# Altium integrated library transistor-npn.IntLib: 176 symbols
Pins are listed as number, name and electrical type; pins without a type are passive.

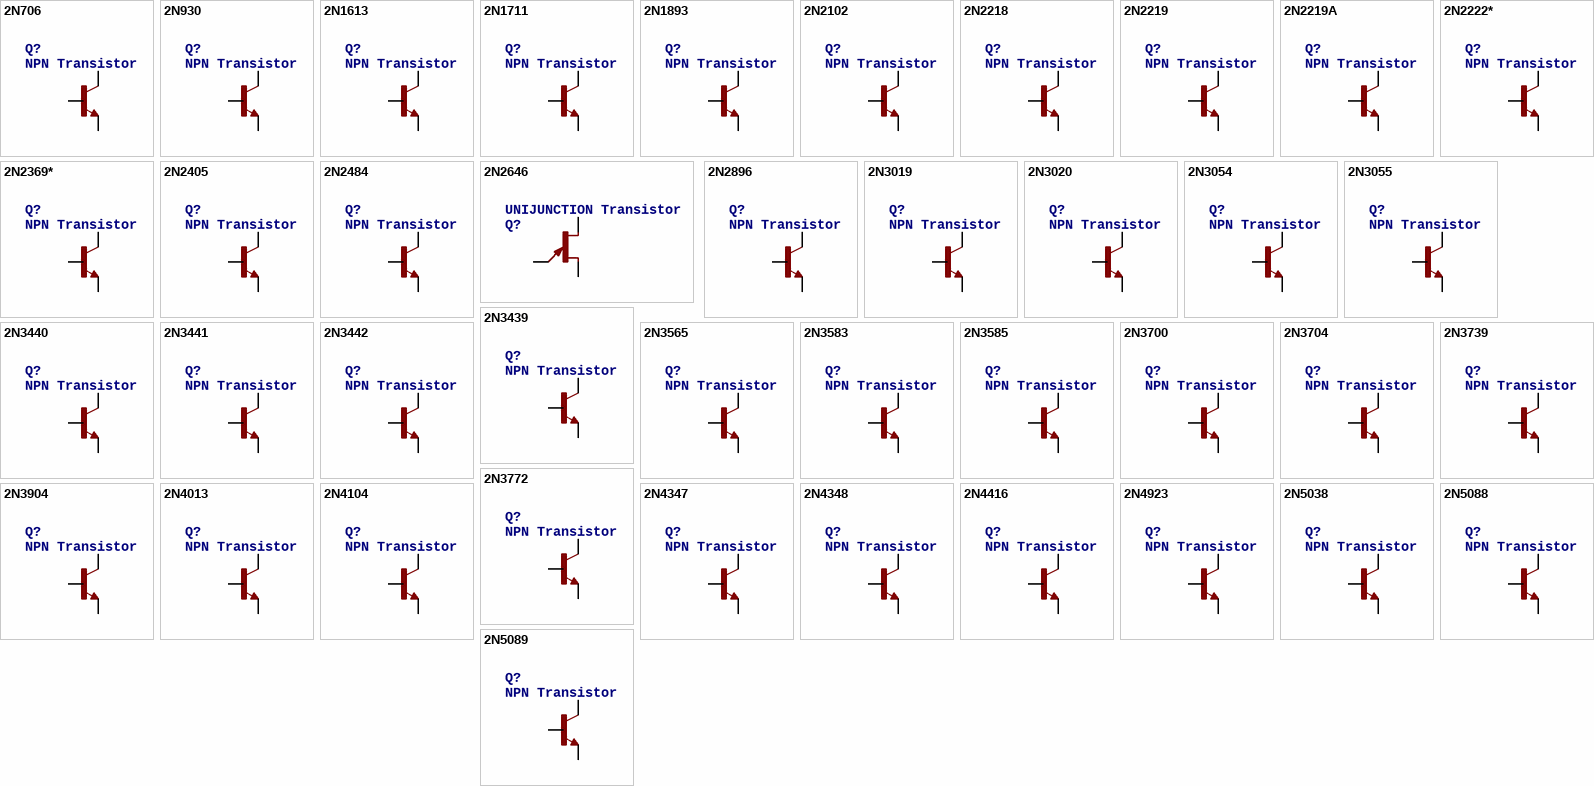
[diagram p0: symbols 2N706 to 2N5089]

## 2N706
designator Q?, comment NPN Transistor
footprint TO18
pins: 1 E, 2 B, 3 C

## 2N930
designator Q?, comment NPN Transistor
footprint TO18
pins: 1 E, 2 B, 3 C

## 2N1613
designator Q?, comment NPN Transistor
footprint TO5
pins: 1 E, 2 B, 3 C

## 2N1711
designator Q?, comment NPN Transistor
footprint TO39
pins: 1 E, 2 B, 3 C

## 2N1893
designator Q?, comment NPN Transistor
footprint TO5
pins: 1 E, 2 B, 3 C

## 2N2102
designator Q?, comment NPN Transistor
footprint TO5
pins: 1 E, 2 B, 3 C

## 2N2218
designator Q?, comment NPN Transistor
footprint TO18
pins: 1 E, 2 B, 3 C

## 2N2219
designator Q?, comment NPN Transistor
footprint TO5
pins: 1 E, 2 B, 3 C

## 2N2219A
designator Q?, comment NPN Transistor
footprint TO39
pins: 1 E, 2 B, 3 C

## 2N2222*
designator Q?, comment NPN Transistor
footprint TO18
pins: 1 E, 2 B, 3 C

## 2N2369*
designator Q?, comment NPN Transistor
footprint TO18
pins: 1 E, 2 B, 3 C

## 2N2405
designator Q?, comment NPN Transistor
footprint TO5
pins: 1 E, 2 B, 3 C

## 2N2484
designator Q?, comment NPN Transistor
footprint TO18
pins: 1 E, 2 B, 3 C

## 2N2646
designator Q?, comment UNIJUNCTION Transistor
footprint TO72
pins: 1 E, 2 B1, 4 B2

## 2N2896
designator Q?, comment NPN Transistor
footprint TO18
pins: 1 E, 2 B, 3 C

## 2N3019
designator Q?, comment NPN Transistor
footprint TO39
pins: 1 E, 2 B, 3 C

## 2N3020
designator Q?, comment NPN Transistor
footprint TO39
pins: 1 E, 2 B, 3 C

## 2N3054
designator Q?, comment NPN Transistor
footprint TO66
pins: 1 E, 2 B, 3 TO66 C

## 2N3055
designator Q?, comment NPN Transistor
footprint TO3
pins: B, C C/ C, E

## 2N3439
designator Q?, comment NPN Transistor
footprint TO5
pins: 1 E, 2 B, 3 C

## 2N3440
designator Q?, comment NPN Transistor
footprint TO5
pins: 1 E, 2 B, 3 C

## 2N3441
designator Q?, comment NPN Transistor
footprint TO66
pins: 1 E, 2 B, 3 TO66 C

## 2N3442
designator Q?, comment NPN Transistor
footprint TO3
pins: B, C C/ C, E

## 2N3565
designator Q?, comment NPN Transistor
footprint TO92
pins: 1 C, 2 B, 3 E

## 2N3583
designator Q?, comment NPN Transistor
footprint TO66
pins: 1 E, 2 B, 3 TO66 C

## 2N3585
designator Q?, comment NPN Transistor
footprint TO66
pins: 1 E, 2 B, 3 TO66 C

## 2N3700
designator Q?, comment NPN Transistor
footprint TO18
pins: 1 E, 2 B, 3 C

## 2N3704
designator Q?, comment NPN Transistor
footprint TO92
pins: 1 B, 2 C, 3 E

## 2N3739
designator Q?, comment NPN Transistor
footprint TO66
pins: 1 E, 2 B, 3 TO66 C

## 2N3772
designator Q?, comment NPN Transistor
footprint TO3
pins: B, C C/ C, E

## 2N3904
designator Q?, comment NPN Transistor
footprint TO92
pins: 1 C, 2 B, 3 E

## 2N4013
designator Q?, comment NPN Transistor
footprint TO18
pins: 1 E, 2 B, 3 C

## 2N4104
designator Q?, comment NPN Transistor
footprint TO18
pins: 1 E, 2 B, 3 C

## 2N4347
designator Q?, comment NPN Transistor
footprint TO3
pins: B, C C/ C, E

## 2N4348
designator Q?, comment NPN Transistor
footprint TO3
pins: B, C C/ C, E

## 2N4416
designator Q?, comment NPN Transistor
footprint TO92
pins: 1 C, 2 B, 3 E

## 2N4923
designator Q?, comment NPN Transistor
footprint TO126
pins: 1 E, 2 C, 3 B

## 2N5038
designator Q?, comment NPN Transistor
footprint TO3
pins: B, C C/ C, E

## 2N5088
designator Q?, comment NPN Transistor
footprint TO92
pins: 1 C, 2 B, 3 E

## 2N5089
designator Q?, comment NPN Transistor
footprint TO92
pins: 1 C, 2 B, 3 E

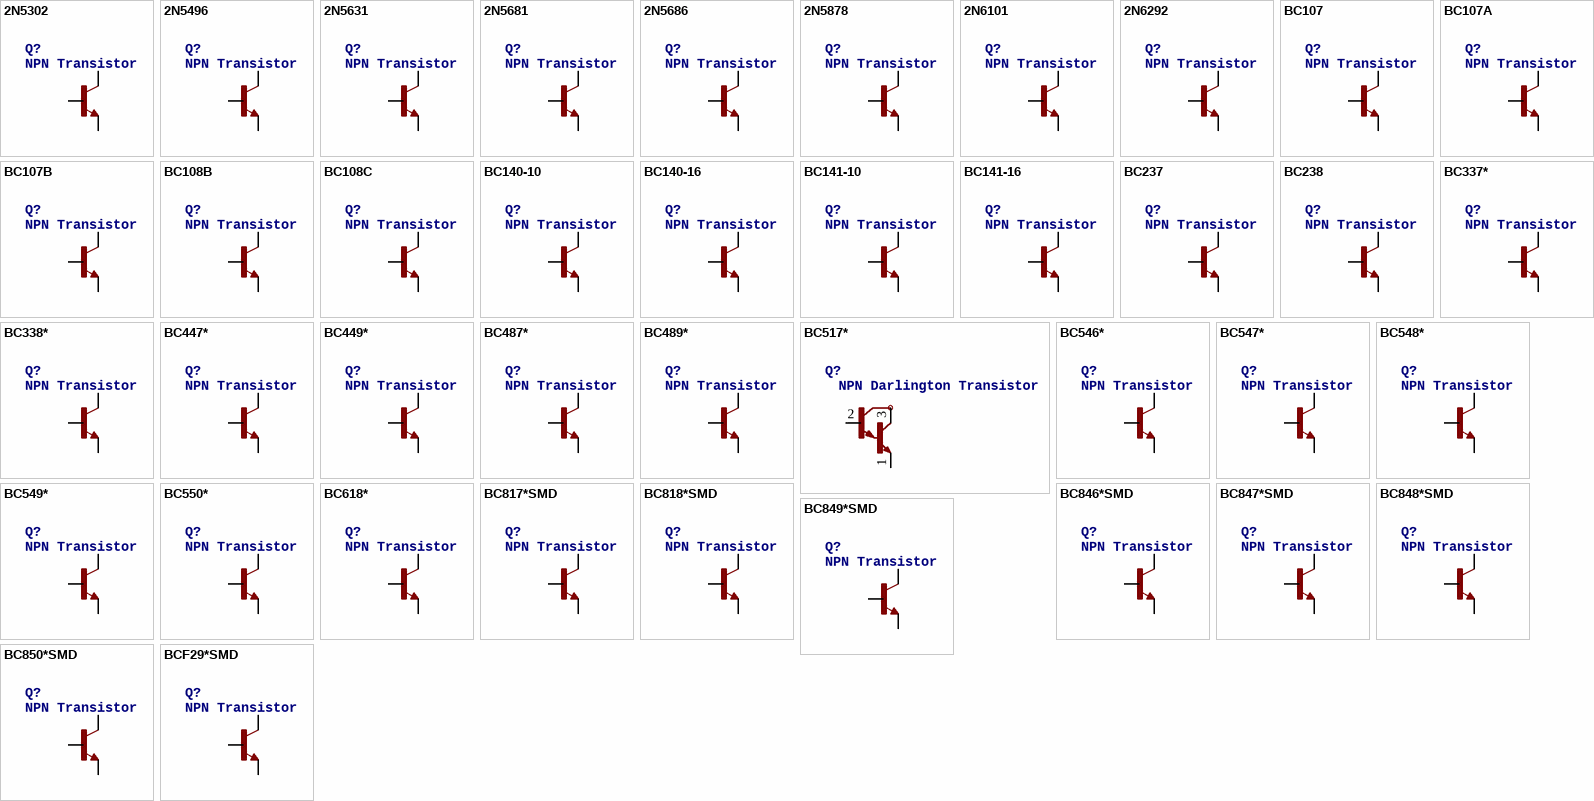
[diagram p1: symbols 2N5302 to BCF29*SMD]

## 2N5302
designator Q?, comment NPN Transistor
footprint TO3
pins: B, C C/ C, E

## 2N5496
designator Q?, comment NPN Transistor
footprint TO220
pins: 1 B, 2 C, 3 E

## 2N5631
designator Q?, comment NPN Transistor
footprint TO3
pins: B, C C/ C, E

## 2N5681
designator Q?, comment NPN Transistor
footprint TO5
pins: 1 E, 2 B, 3 C

## 2N5686
designator Q?, comment NPN Transistor
footprint TO3
pins: B, C C/ C, E

## 2N5878
designator Q?, comment NPN Transistor
footprint TO3
pins: B, C C/ C, E

## 2N6101
designator Q?, comment NPN Transistor
footprint TO220
pins: 1 B, 2 C, 3 E

## 2N6292
designator Q?, comment NPN Transistor
footprint TO220
pins: 1 B, 2 C, 3 E

## BC107
designator Q?, comment NPN Transistor
footprint TO18
pins: 1 E, 2 B, 3 C

## BC107A
designator Q?, comment NPN Transistor
footprint TO18
pins: 1 E, 2 B, 3 C

## BC107B
designator Q?, comment NPN Transistor
footprint TO18
pins: 1 E, 2 B, 3 C

## BC108B
designator Q?, comment NPN Transistor
footprint TO18
pins: 1 E, 2 B, 3 C

## BC108C
designator Q?, comment NPN Transistor
footprint TO18
pins: 1 E, 2 B, 3 C

## BC140-10
designator Q?, comment NPN Transistor
footprint TO39
pins: 1 E, 2 B, 3 C

## BC140-16
designator Q?, comment NPN Transistor
footprint TO39
pins: 1 E, 2 B, 3 C

## BC141-10
designator Q?, comment NPN Transistor
footprint TO39
pins: 1 E, 2 B, 3 C

## BC141-16
designator Q?, comment NPN Transistor
footprint TO39
pins: 1 E, 2 B, 3 C

## BC237
designator Q?, comment NPN Transistor
footprint TO92
pins: 1 E, 2 B, 3 C

## BC238
designator Q?, comment NPN Transistor
footprint TO92
pins: 1 E, 2 B, 3 C

## BC337*
designator Q?, comment NPN Transistor
footprint TO92
pins: 1 E, 2 B, 3 C

## BC338*
designator Q?, comment NPN Transistor
footprint TO92-EBC
pins: B, C, E

## BC447*
designator Q?, comment NPN Transistor
footprint TO92-EBC
pins: B, C, E

## BC449*
designator Q?, comment NPN Transistor
footprint TO92-EBC
pins: B, C, E

## BC487*
designator Q?, comment NPN Transistor
footprint TO92-EBC
pins: B, C, E

## BC489*
designator Q?, comment NPN Transistor
footprint TO92-EBC
pins: B, C, E

## BC517*
designator Q?, comment NPN Darlington Transistor
footprint TO92
pins: 1 E, 2 B, 3 C

## BC546*
designator Q?, comment NPN Transistor
footprint TO92-EBC
pins: B, C, E

## BC547*
designator Q?, comment NPN Transistor
footprint TO92
pins: 1 E, 2 B, 3 C

## BC548*
designator Q?, comment NPN Transistor
footprint TO92-EBC
pins: B, C, E

## BC549*
designator Q?, comment NPN Transistor
footprint TO92-EBC
pins: B, C, E

## BC550*
designator Q?, comment NPN Transistor
footprint TO92-EBC
pins: B, C, E

## BC618*
designator Q?, comment NPN Transistor
footprint TO92-EBC
pins: B, C, E

## BC817*SMD
designator Q?, comment NPN Transistor
footprint SOT23-BEC
pins: B, C, E

## BC818*SMD
designator Q?, comment NPN Transistor
footprint SOT23-BEC
pins: B, C, E

## BC846*SMD
designator Q?, comment NPN Transistor
footprint SOT23
pins: 1 B, 2 E, 3 C

## BC847*SMD
designator Q?, comment NPN Transistor
footprint SOT23
pins: 1 B, 2 E, 3 C

## BC848*SMD
designator Q?, comment NPN Transistor
footprint SOT23
pins: 1 B, 2 E, 3 C

## BC849*SMD
designator Q?, comment NPN Transistor
footprint SOT23-BEC
pins: B, C, E

## BC850*SMD
designator Q?, comment NPN Transistor
footprint SOT23-BEC
pins: B, C, E

## BCF29*SMD
designator Q?, comment NPN Transistor
footprint SOT23-BEC
pins: B, C, E

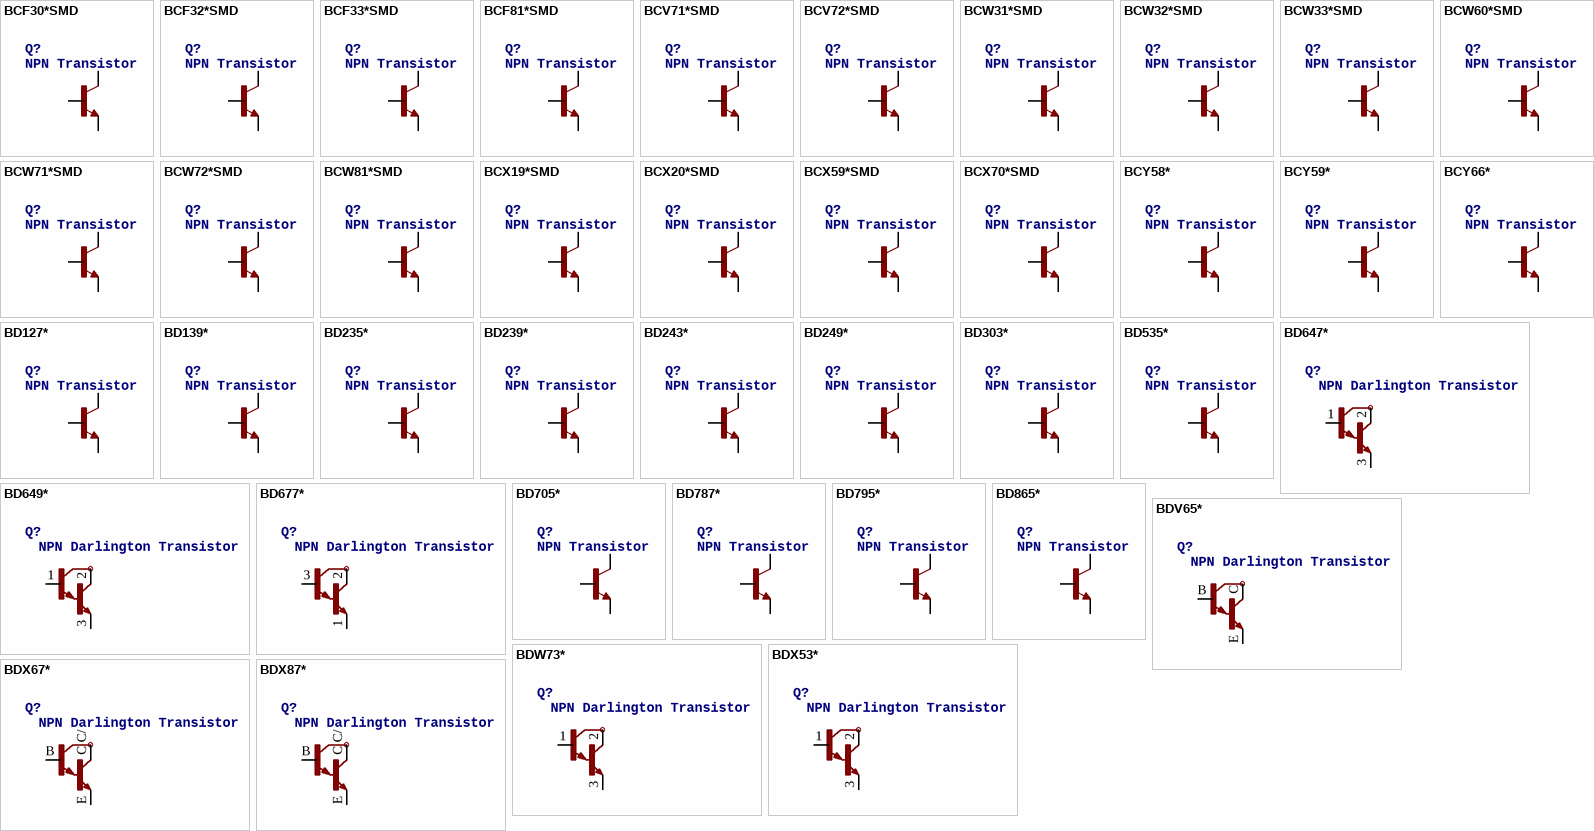
[diagram p2: symbols BCF30*SMD to BDX87*]

## BCF30*SMD
designator Q?, comment NPN Transistor
footprint SOT23-BEC
pins: B, C, E

## BCF32*SMD
designator Q?, comment NPN Transistor
footprint SOT23-BEC
pins: B, C, E

## BCF33*SMD
designator Q?, comment NPN Transistor
footprint SOT23-BEC
pins: B, C, E

## BCF81*SMD
designator Q?, comment NPN Transistor
footprint SOT23-BEC
pins: B, C, E

## BCV71*SMD
designator Q?, comment NPN Transistor
footprint SOT23-BEC
pins: B, C, E

## BCV72*SMD
designator Q?, comment NPN Transistor
footprint SOT23-BEC
pins: B, C, E

## BCW31*SMD
designator Q?, comment NPN Transistor
footprint SOT23-BEC
pins: B, C, E

## BCW32*SMD
designator Q?, comment NPN Transistor
footprint SOT23-BEC
pins: B, C, E

## BCW33*SMD
designator Q?, comment NPN Transistor
footprint SOT23-BEC
pins: B, C, E

## BCW60*SMD
designator Q?, comment NPN Transistor
footprint SOT23-BEC
pins: B, C, E

## BCW71*SMD
designator Q?, comment NPN Transistor
footprint SOT23-BEC
pins: B, C, E

## BCW72*SMD
designator Q?, comment NPN Transistor
footprint SOT23-BEC
pins: B, C, E

## BCW81*SMD
designator Q?, comment NPN Transistor
footprint SOT23-BEC
pins: B, C, E

## BCX19*SMD
designator Q?, comment NPN Transistor
footprint SOT23-BEC
pins: B, C, E

## BCX20*SMD
designator Q?, comment NPN Transistor
footprint SOT23-BEC
pins: B, C, E

## BCX59*SMD
designator Q?, comment NPN Transistor
footprint TO92-EBC
pins: B, C, E

## BCX70*SMD
designator Q?, comment NPN Transistor
footprint SOT23
pins: 1 B, 2 E, 3 C

## BCY58*
designator Q?, comment NPN Transistor
footprint TO18
pins: 1 E, 2 B, 3 C

## BCY59*
designator Q?, comment NPN Transistor
footprint TO18
pins: 1 E, 2 B, 3 C

## BCY66*
designator Q?, comment NPN Transistor
footprint TO18
pins: 1 E, 2 B, 3 C

## BD127*
designator Q?, comment NPN Transistor
footprint TO126
pins: 1 E, 2 C, 3 B

## BD139*
designator Q?, comment NPN Transistor
footprint TO126
pins: 1 E, 2 C, 3 B

## BD235*
designator Q?, comment NPN Transistor
footprint TO126
pins: 1 E, 2 C, 3 B

## BD239*
designator Q?, comment NPN Transistor
footprint TO220
pins: 1 B, 2 C, 3 E

## BD243*
designator Q?, comment NPN Transistor
footprint TO220
pins: 1 B, 2 C, 3 E

## BD249*
designator Q?, comment NPN Transistor
footprint TOP3
pins: 1 B, 2 C, 3 E

## BD303*
designator Q?, comment NPN Transistor
footprint TO220
pins: 1 B, 2 C, 3 E

## BD535*
designator Q?, comment NPN Transistor
footprint TO220
pins: 1 B, 2 C, 3 E

## BD647*
designator Q?, comment NPN Darlington Transistor
footprint TO220
pins: 1 B, 2 C, 3 E

## BD649*
designator Q?, comment NPN Darlington Transistor
footprint TO220
pins: 1 B, 2 C, 3 E

## BD677*
designator Q?, comment NPN Darlington Transistor
footprint TO126
pins: 1 E, 2 C, 3 B

## BD705*
designator Q?, comment NPN Transistor
footprint TO220
pins: 1 B, 2 C, 3 E

## BD787*
designator Q?, comment NPN Transistor
footprint TO126
pins: 1 E, 2 C, 3 B

## BD795*
designator Q?, comment NPN Transistor
footprint TO220
pins: 1 E, 2 C, 3 B

## BD865*
designator Q?, comment NPN Transistor
footprint TO202
pins: 1 E, 2 C, 3 B

## BDV65*
designator Q?, comment NPN Darlington Transistor
footprint SOT93
pins: B, C, E

## BDW73*
designator Q?, comment NPN Darlington Transistor
footprint TO220
pins: 1 B, 2 C, 3 E

## BDX53*
designator Q?, comment NPN Darlington Transistor
footprint TO220
pins: 1 B, 2 C, 3 E

## BDX67*
designator Q?, comment NPN Darlington Transistor
footprint TO3
pins: B, C C/ C, E

## BDX87*
designator Q?, comment NPN Darlington Transistor
footprint TO3
pins: B, C C/ C, E

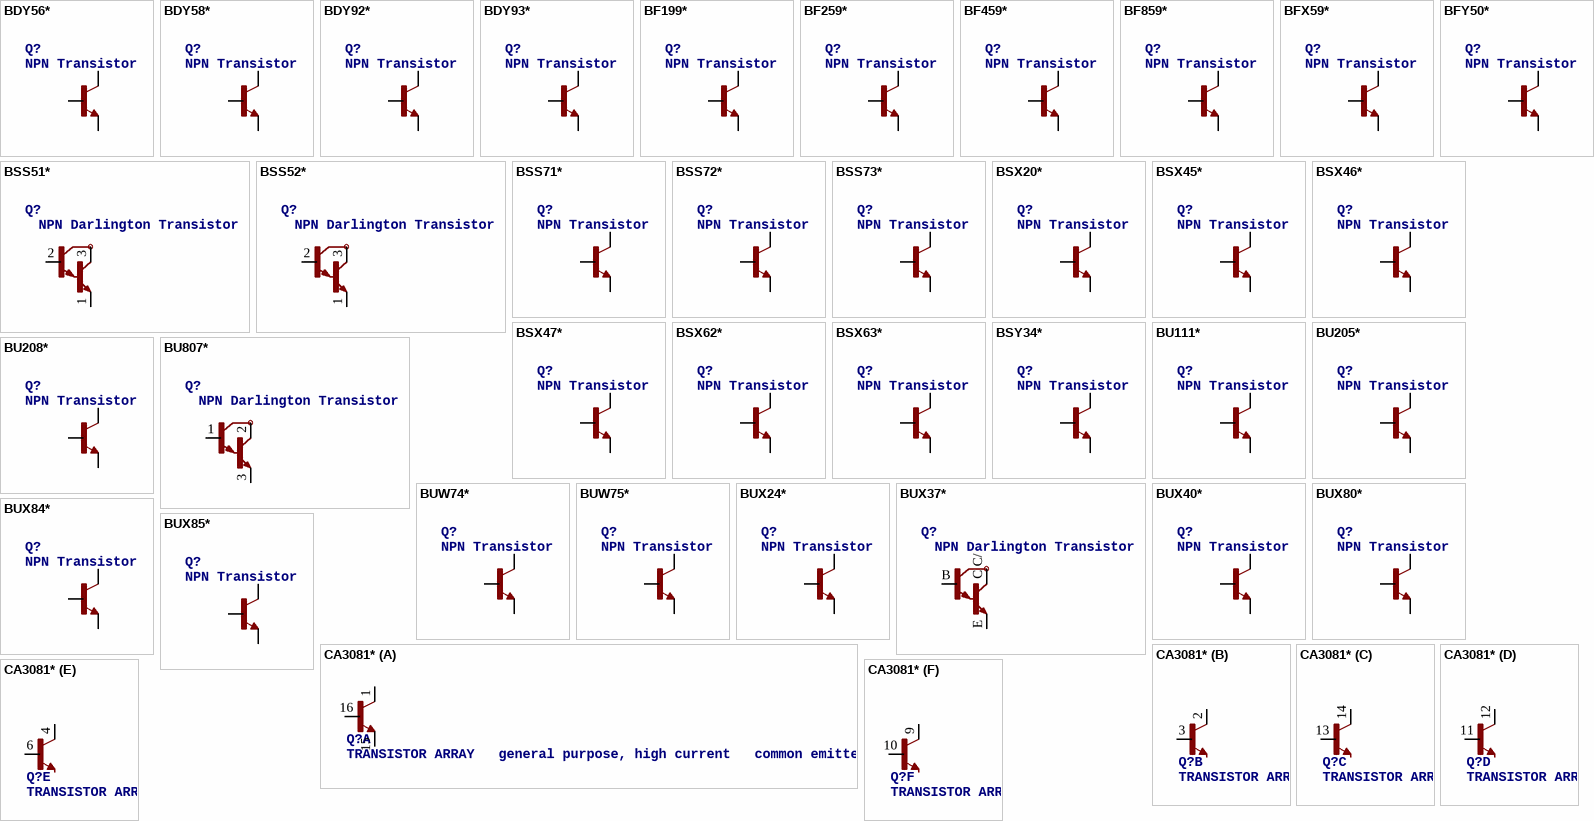
[diagram p3: symbols BDY56* to CA3081*]

## BDY56*
designator Q?, comment NPN Transistor
footprint TO3
pins: B, C C/ C, E

## BDY58*
designator Q?, comment NPN Transistor
footprint TO3
pins: B, C C/ C, E

## BDY92*
designator Q?, comment NPN Transistor
footprint TO3
pins: B, C C/ C, E

## BDY93*
designator Q?, comment NPN Transistor
footprint TO3
pins: B, C C/ C, E

## BF199*
designator Q?, comment NPN Transistor
footprint TO92
pins: 1 B, 2 E, 3 C

## BF259*
designator Q?, comment NPN Transistor
footprint TO39
pins: 1 E, 2 B, 3 C

## BF459*
designator Q?, comment NPN Transistor
footprint TO126
pins: 1 E, 2 C, 3 B

## BF859*
designator Q?, comment NPN Transistor
footprint TO202
pins: 1 E, 2 C, 3 B

## BFX59*
designator Q?, comment NPN Transistor
footprint TO72
pins: 1 E, 2 B, 3 C

## BFY50*
designator Q?, comment NPN Transistor
footprint TO39
pins: 1 E, 2 B, 3 C

## BSS51*
designator Q?, comment NPN Darlington Transistor
footprint TO39
pins: 1 E, 2 B, 3 C

## BSS52*
designator Q?, comment NPN Darlington Transistor
footprint TO39
pins: 1 E, 2 B, 3 C

## BSS71*
designator Q?, comment NPN Transistor
footprint TO18
pins: 1 E, 2 B, 3 C

## BSS72*
designator Q?, comment NPN Transistor
footprint TO18
pins: 1 E, 2 B, 3 C

## BSS73*
designator Q?, comment NPN Transistor
footprint TO18
pins: 1 E, 2 B, 3 C

## BSX20*
designator Q?, comment NPN Transistor
footprint TO18
pins: 1 E, 2 B, 3 C

## BSX45*
designator Q?, comment NPN Transistor
footprint TO39
pins: 1 E, 2 B, 3 C

## BSX46*
designator Q?, comment NPN Transistor
footprint TO39
pins: 1 E, 2 B, 3 C

## BSX47*
designator Q?, comment NPN Transistor
footprint TO39
pins: 1 E, 2 B, 3 C

## BSX62*
designator Q?, comment NPN Transistor
footprint TO39
pins: 1 E, 2 B, 3 C

## BSX63*
designator Q?, comment NPN Transistor
footprint TO39
pins: 1 E, 2 B, 3 C

## BSY34*
designator Q?, comment NPN Transistor
footprint TO39
pins: 1 E, 2 B, 3 C

## BU111*
designator Q?, comment NPN Transistor
footprint TO3
pins: B, C C/ C, E

## BU205*
designator Q?, comment NPN Transistor
footprint TO3
pins: B, C C/ C, E

## BU208*
designator Q?, comment NPN Transistor
footprint TO3
pins: B, C C/ C, E

## BU807*
designator Q?, comment NPN Darlington Transistor
footprint TO220
pins: 1 B, 2 C, 3 E

## BUW74*
designator Q?, comment NPN Transistor
footprint TO3
pins: B, C C/ C, E

## BUW75*
designator Q?, comment NPN Transistor
footprint TO3
pins: B, C C/ C, E

## BUX24*
designator Q?, comment NPN Transistor
footprint TO3
pins: B, C C/ C, E

## BUX37*
designator Q?, comment NPN Darlington Transistor
footprint TO3
pins: B, C C/ C, E

## BUX40*
designator Q?, comment NPN Transistor
footprint TO3
pins: B, C C/ C, E

## BUX80*
designator Q?, comment NPN Transistor
footprint TO3
pins: B, C C/ C, E

## BUX84*
designator Q?, comment NPN Transistor
footprint TO220
pins: 1 B, 2 C, 3 E

## BUX85*
designator Q?, comment NPN Transistor
footprint TO220
pins: 1 B, 2 C, 3 E

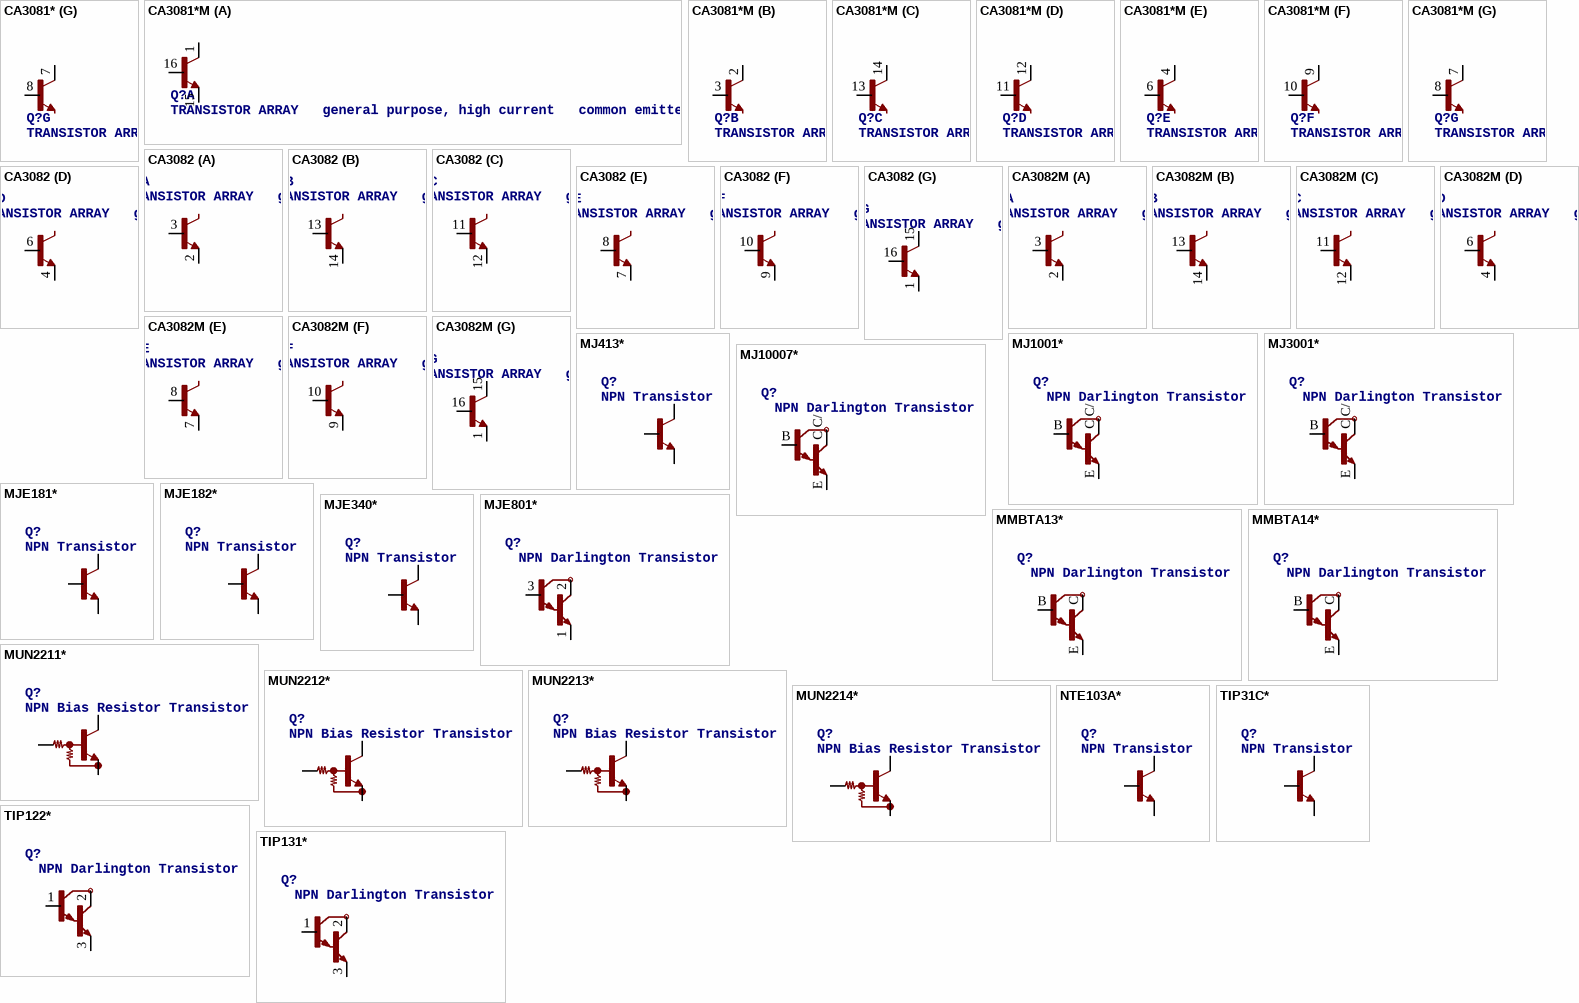
[diagram p4: symbols CA3081* to TIP131*]

## CA3081*
designator Q?, comment TRANSISTOR ARRAY   general purpose, high current   common emitter
footprint DIL16
part A pins: 1 C, 15 E, 16 B
part B pins: 2 C, 3 B
part C pins: 13 B, 14 C
part D pins: 11 B, 12 C
part E pins: 4 C, 6 B
part F pins: 9 C, 10 B
part G pins: 7 C, 8 B

## CA3081*M
designator Q?, comment TRANSISTOR ARRAY   general purpose, high current   common emitter
footprint SO16
part A pins: 1 C, 15 E, 16 B
part B pins: 2 C, 3 B
part C pins: 13 B, 14 C
part D pins: 11 B, 12 C
part E pins: 4 C, 6 B
part F pins: 9 C, 10 B
part G pins: 7 C, 8 B

## CA3082
designator Q?, comment TRANSISTOR ARRAY   general purpose, high current   common collector
footprint DIL16
part A pins: 2 E, 3 B
part B pins: 13 B, 14 E
part C pins: 11 B, 12 E
part D pins: 4 E, 6 B
part E pins: 7 E, 8 B
part F pins: 9 E, 10 B
part G pins: 1 E, 15 C, 16 B

## CA3082M
designator Q?, comment TRANSISTOR ARRAY   general purpose, high current   common collector
footprint SO16
part A pins: 2 E, 3 B
part B pins: 13 B, 14 E
part C pins: 11 B, 12 E
part D pins: 4 E, 6 B
part E pins: 7 E, 8 B
part F pins: 9 E, 10 B
part G pins: 1 E, 15 C, 16 B

## MJ413*
designator Q?, comment NPN Transistor
footprint TO3
pins: B, C C/ C, E

## MJ1001*
designator Q?, comment NPN Darlington Transistor
footprint TO3
pins: B, C C/ C, E

## MJ3001*
designator Q?, comment NPN Darlington Transistor
footprint TO3
pins: B, C C/ C, E

## MJ10007*
designator Q?, comment NPN Darlington Transistor
footprint TO3
pins: B, C C/ C, E

## MJE181*
designator Q?, comment NPN Transistor
footprint TO225AA
pins: 1 E, 2 C, 3 B

## MJE182*
designator Q?, comment NPN Transistor
footprint TO225AA
pins: 1 E, 2 C, 3 B

## MJE340*
designator Q?, comment NPN Transistor
footprint TO126
pins: 1 E, 2 C, 3 B

## MJE801*
designator Q?, comment NPN Darlington Transistor
footprint TO126
pins: 1 E, 2 C, 3 B

## MMBTA13*
designator Q?, comment NPN Darlington Transistor
footprint SOT23-BEC
pins: B, C, E

## MMBTA14*
designator Q?, comment NPN Darlington Transistor
footprint SOT23-BEC
pins: B, C, E

## MUN2211*
designator Q?, comment NPN Bias Resistor Transistor
footprint SC59-BEC
pins: B, C, E

## MUN2212*
designator Q?, comment NPN Bias Resistor Transistor
footprint SC59-BEC
pins: B, C, E

## MUN2213*
designator Q?, comment NPN Bias Resistor Transistor
footprint SC59-BEC
pins: B, C, E

## MUN2214*
designator Q?, comment NPN Bias Resistor Transistor
footprint SC59-BEC
pins: B, C, E

## NTE103A*
designator Q?, comment NPN Transistor
footprint TO18-
pins: 1 E, 2 B, 3 C

## TIP31C*
designator Q?, comment NPN Transistor
footprint TO220
pins: 1 B, 2 C, 3 E

## TIP122*
designator Q?, comment NPN Darlington Transistor
footprint TO220
pins: 1 B, 2 C, 3 E

## TIP131*
designator Q?, comment NPN Darlington Transistor
footprint TO220
pins: 1 B, 2 C, 3 E